# EAGLE library part CC3000 (library arducorder-mini)
Texas Instruments SimpleLink CC3000 Module -- Wi-Fi 802.11b/g Network Processor
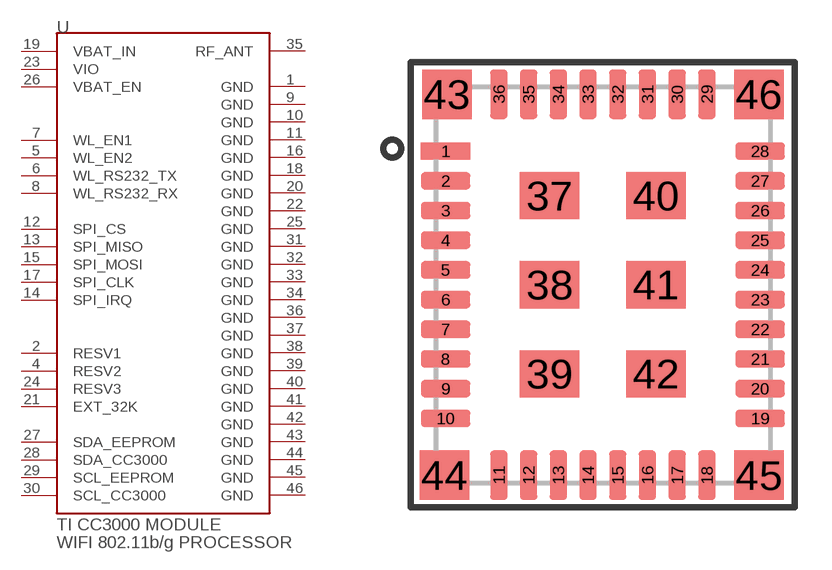
[diagram p11: symbol with the pads of CC3000; footprint CC3000]

Designator prefix -

## CC3000  [CC3000]
1  GND
2  RESV1
4  RESV2
5  WL_EN2
6  WL_RS232_TX
7  WL_EN1
8  WL_RS232_RX
9  GND
10  GND
11  GND
12  SPI_CS
13  SPI_MISO
14  SPI_IRQ
15  SPI_MOSI
16  GND
17  SPI_CLK
18  GND
19  VBAT_IN
20  GND
21  EXT_32K
22  GND
23  VIO
24  RESV3
25  GND
26  VBAT_EN
27  SDA_EEPROM
28  SDA_CC3000
29  SCL_EEPROM
30  SCL_CC3000
31  GND
32  GND
33  GND
34  GND
35  RF_ANT
36  GND
37  GND
38  GND
39  GND
40  GND
41  GND
42  GND
43  GND
44  GND
45  GND
46  GND

## Footprint CC3000 (pad centres in mm)
smd 2 x 0.7: 1 -6.35,5.4; 2 -6.35,4.2; 3 -6.35,3; 4 -6.35,1.8; 5 -6.35,0.6; 6 -6.35,-0.6; 7 -6.35,-1.8; 8 -6.35,-3; 9 -6.35,-4.2; 10 -6.35,-5.4; 19 6.35,-5.4; 20 6.35,-4.2; 21 6.35,-3; 22 6.35,-1.8; 23 6.35,-0.6; 24 6.35,0.6; 25 6.35,1.8; 26 6.35,3; 27 6.35,4.2; 28 6.35,5.4
smd 0.7 x 2: 11 -4.2,-7.7; 12 -3,-7.7; 13 -1.8,-7.7; 14 -0.6,-7.7; 15 0.6,-7.7; 16 1.8,-7.7; 17 3,-7.7; 18 4.2,-7.7; 29 4.2,7.7; 30 3,7.7; 31 1.8,7.7; 32 0.6,7.7; 33 -0.6,7.7; 34 -1.8,7.7; 35 -3,7.7; 36 -4.2,7.7
smd 2.4 x 1.9: 37 -2.15,3.6; 38 -2.15,0; 39 -2.15,-3.6; 40 2.15,3.6; 41 2.15,0; 42 2.15,-3.6
smd 2 x 2: 43 -6.3,7.7; 44 -6.4,-7.7; 45 6.3,-7.7; 46 6.3,7.7